# Altium footprint library Component.PcbLib: 79 footprints (part 3 of 5)
Each footprint in its own frame and in the unit in brackets; x right, y up, seen from the top. Pads: shape width x height; smd on the part's side, far side on the other; paste and mask are expansions set on the pad; w line width, h text height; cw(c..) or ccw(c..) is an arc to the next point about the centre after c.
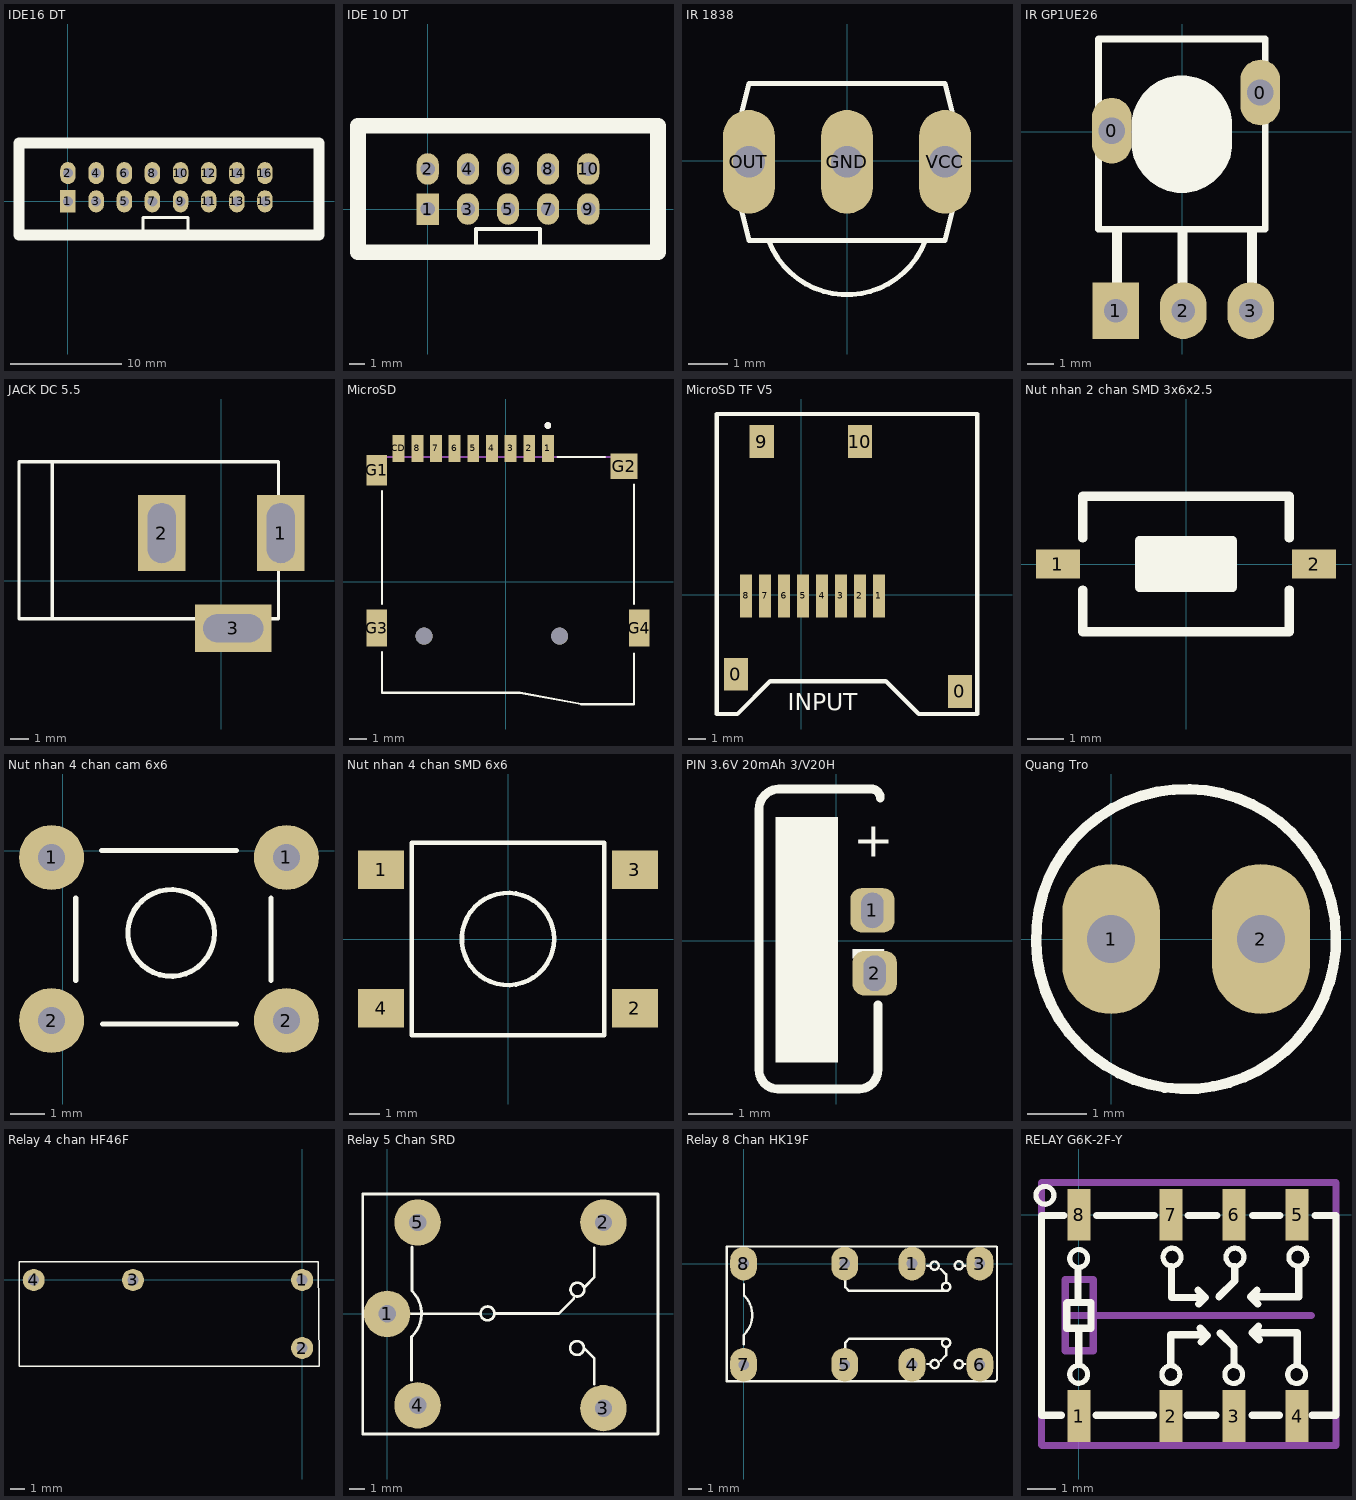
[diagram p2: the footprints below, top view; thin cyan lines are the x and y axes]

## IDE16 DT [mm]
pads (16):
  rect 1.4x2 hole 0.9: 1(0,0)
  oval 1.4x2 hole 0.9: 2(0,2.54) 3(2.54,0) 4(2.54,2.54) 5(5.08,0) 6(5.08,2.54) 7(7.62,0) 8(7.62,2.54) 9(10.16,0) 10(10.16,2.54) 11(12.7,0) 12(12.7,2.54) 13(15.24,0) 14(15.24,2.54) 15(17.78,0) 16(17.78,2.54)
Top Overlay:
  lines w0.254: 6.782,-2.718 6.782,-1.448 10.846,-1.448 10.846,-2.972
  lines w1: 8.28,-3.048 22.657,-3.048 22.657,5.27 8.28,5.27 ; 14.58,-3.048 -4.42,-3.048 -4.42,5.27 14.58,5.27

## IDE 10 DT [mm] "Connector; Header; 5x2 Position"
pads (10):
  rect 1.4x2 hole 0.9: 1(0,0)
  oval 1.4x2 hole 0.9: 2(0,2.54) 3(2.54,0) 4(2.54,2.54) 5(5.08,0) 6(5.08,2.54) 7(7.62,0) 8(7.62,2.54) 9(10.16,0) 10(10.16,2.54)
Top Overlay:
  lines w0.254: 3.048,-2.286 3.048,-1.27 6.858,-1.27 7.112,-1.27 7.112,-2.286
  lines w1: -4.42,-2.73 -4.42,5.27 14.58,5.27 14.58,-2.73 -4.42,-2.73
3D body "User Library-Tyco - 5103308-1 (Shrouded Header 2_54mm 10 Pin).step": height 9.86, standoff -3.05, extent -5.08,-3.302 15.24,5.842

## IR 1838 [mil]
pads (3):
  oval 52x104 hole 32: GND(-0.05,-1.05) OUT(-98.47,-1.05) VCC(98.38,-1.05)
Top Overlay:
  lines w5: -78.56,-80.4 ccw(c-0.05,-50.26) 78.46,-80.4 ; -118.16,-1.05 -98.47,77.69 98.38,77.69 118.06,-1.05 98.38,-79.79 78.69,-79.79 -78.79,-79.79 -98.47,-79.79 -118.16,-1.05
3D body "TSOP1838--3DModel-STEP-510211.STEP": height 503.54, standoff -716.93, extent -118.11,-164.88 118.11,55

## IR GP1UE26 [mm]
pads (5):
  oval 1.5x2.5 hole 1 square: 0(-2.675,0.05) 0(2.975,1.5)
  rect 1.778x2.159 hole 0.889: 1(-2.525,-6.8)
  oval 1.778x2.159 hole 0.889: 2(0.047,-6.8) 3(2.612,-6.8)
Top Overlay:
  region: 1.9,0.234 1.9,-0.401 1.9,-0.589 1.827,-0.957 1.683,-1.303 1.475,-1.615 1.209,-1.881 0.897,-2.089 0.551,-2.233 0.183,-2.306 -0.005,-2.306 -0.193,-2.306 -0.561,-2.233 -0.907,-2.089 -1.219,-1.881 -1.485,-1.615 -1.693,-1.303 -1.837,-0.957 -1.91,-0.589 -1.91,-0.401 -1.91,0.234 -1.91,0.422 -1.837,0.79 -1.693,1.136 -1.485,1.448 -1.219,1.714 -0.907,1.922 -0.561,2.066 -0.193,2.139 -0.005,2.139 0.183,2.139 0.551,2.066 0.897,1.922 1.209,1.714 1.475,1.448 1.683,1.136 1.827,0.79 1.9,0.422
  lines w0.254: -3.18,-3.703 3.17,-3.703 3.17,3.536 -3.18,3.536 -3.18,-3.703
  lines w0.381: -2.469,-6.421 -2.469,-3.83 ; 0.02,-6.472 0.02,-3.83 ; 2.662,-6.497 2.662,-3.83
Mechanical 1:
  text "O G V" at -2.275,-5.375 h2
3D body "User Library-GP1UE26.STEP": height 7.1, standoff -3.6, extent -3.375,-6.925 3.425,2.875

## JACK DC 5.5 [mm] "Jac DC input"
height 5.08
pads (3):
  rect 2.54x4.064 hole 1.5 slot 3.2 at 90 deg: 1(3.175,2.54) 2(-3.175,2.54)
  rect 4.064x2.54 hole 1.5 slot 3.2 at 0 deg: 3(0.635,-2.54)
Top Overlay:
  lines w0.178: -9.017,-2.032 -9.017,6.35 ; -10.795,-2.032 -10.795,6.35 3.048,6.35 3.048,-2.032 -10.795,-2.032
3D body "SW3dPS-dc range - dc connector[4840.2201].STEP": height 11.02, standoff -3.48, extent -10.423,-2.67 3.404,6.836

## MicroSD [mm]
pads (15):
  rect 0.7x1.6 smd: 1(2.477,7.877) 2(1.377,7.877) 3(0.277,7.877) 4(-0.823,7.877) 5(-1.923,7.877) 6(-3.023,7.877) 7(-4.123,7.877) 8(-5.223,7.877) CD(-6.323,7.877)
  rect 1.2x1.8 smd: G1(-7.623,6.577)
  rect 1.6x1.5 smd: G2(6.977,6.827)
  rect 1.2x2.2 smd: G3(-7.623,-2.723) G4(7.877,-2.723)
  round 1 hole 1 unplated: ""(-4.823,-3.2) ""(3.177,-3.2)
Top Overlay:
  circle w0.2: c2.477,9.227 r0.1
  lines w0.127: -7.298,-4.137 -7.298,-6.542 0.838,-6.542 4.445,-7.214 7.552,-7.214 7.552,-4.214 ; -7.298,-1.303 -7.298,5.357 ; 3.047,7.377 5.857,7.377 ; 7.552,-1.303 7.552,5.757
Mechanical 13:
  circle w0.2: c2.477,9.227 r0.1
  lines w0.127: -7.298,7.377 7.552,7.377
3D body "step_temp.STEP": height 1.93, standoff -0.47, extent -7.92,-7.2 8.23,7.85

## MicroSD TF V5 [mm]
pads (12):
  rect 1.4x1.9 smd: 0(-3.8,-4.6) 0(9.2,-5.6) 9(-2.3,8.9) 10(3.4,8.9)
  rect 0.7x2.5 smd: 1(4.5,-0.054) 2(3.4,-0.054) 3(2.3,-0.054) 4(1.2,-0.054) 5(0.1,-0.054) 6(-1,-0.054) 7(-2.1,-0.054) 8(-3.2,-0.054)
Top Overlay:
  lines w0.254: -4.9,-6.909 -3.979,-6.909 -3.709,-6.909 -1.8,-5 4.9,-5 6.809,-6.909 10.2,-6.909 10.2,10.5 6.4,10.5 -1.4,10.5 -4.9,10.5 -4.9,-6.909
  text "INPUT" at -0.8,-6.7 h1
3D body "User Library-473521001_microSD.STEP": height 2, standoff 0.12, extent -4.35,-5.54 9.75,9.66

## Nut nhan 2 chan SMD 3x6x2.5 [mm] "Switch SMD type"
pads (2):
  rect 1.2x0.8 smd: 1(-3.5,0) 2(3.5,0)
Top Overlay:
  rectangle: -1.27,-0.635 1.27,0.635
  lines w0.254: -2.819,-0.711 -2.819,-1.854 2.819,-1.854 2.819,-0.711 ; -2.819,0.711 -2.819,1.854 2.819,1.854 2.819,0.711 ; -1.27,-0.635 1.27,-0.635 1.27,0.635 -1.27,0.635 -1.27,-0.635
3D body "User Library-Button-SMD.step": height 2.5, standoff 0, extent -3.05,-1.85 3.05,1.85

## Nut nhan 4 chan cam 6x6 [mil] "SW button 4pin, 250 x250 mil"
height 100
pads (4):
  round 75 hole 31: 1(-13,-8) 1(258,-8) 2(-13,-196) 2(258,-196)
Top Overlay:
  circle w6: c125,-95 r50
  lines w6: 15,-150 15,-55 ; 45,0 200,0 ; 46,-200 200,-200 ; 240,-150 240,-55
  lines w7: 239,-215 240,-214
3D body "SW3dPS-.STEP": height 275.59, standoff -137.8, extent -30.51,-225 280.51,19.09

## Nut nhan 4 chan SMD 6x6 [mil] "SW SMD button 4pin, 250 x250 mil"
height 100
pads (4):
  rect 60x50 smd: 1(-165,90) 2(165,-90) 3(165,90) 4(-165,-90)
Top Overlay:
  circle w6: c0,0 r60
  lines w6: -125,-125 -125,125 125,125 125,-125 -125,-125
3D body: height 130, standoff 80, extent -59.76,-59.88 59.76,59.88
3D body: height 80, standoff 10, extent -125,-125 125,125
3D body: height 20, standoff 0, extent 125,-105 180,-75
3D body: height 20, standoff 0, extent 125,75 180,105
3D body: height 20, standoff 0, extent -180,75 -125,105
3D body: height 20, standoff 0, extent -180,-105 -125,-75

## PIN 3.6V 20mAh 3/V20H [mm] "batttery"
height 1.1
pads (2):
  rrect50% 1x1 hole 0.5 slot 0.8 at 90 deg unplated: 1(0.813,0.686) 2(0.864,-0.737)
Top Overlay:
  region: -1.372,2.794 0.025,2.794 0.025,-2.743 -1.372,-2.743
  lines w0.2: 0.94,-1.448 0.94,-2.921 cw(c0.508,-2.921) 0.508,-3.353 -1.321,-3.353 cw(c-1.321,-2.921) -1.753,-2.921 -1.753,-2.819 -1.753,2.972 cw(c-1.295,2.972) -1.295,3.429 0.787,3.429 cw(c0.787,3.226) 0.991,3.226
  text "-" at 0.229,-1.05 h2
  text "+" at 0.379,1.896 h0.8
3D body "User Library-ms621fe.STEP": height 8.4, standoff -0.9, extent -1.742,-3.4 0.958,3.4

## Quang Tro [mil] "QUANG TRO"
height 300
pads (2):
  oval 65x100 hole 32: 1(0,0) 2(100,0)
Top Overlay:
  lines w7: 136.62,-49.97 cw(c50,0) 137.42,-48.56

## Relay 4 chan HF46F [mil]
pads (4):
  round 60 hole 30: 1(0,0) 2(0,-185.04) 3(-460,0) 4(-730,0)
Top Overlay:
  lines w3.94: -770,-235 45.78,-235 44.39,50 -770,50 -770,-235
3D body "User Library-Relay-HF46F-G 5-HS1.STEP": height 154.48, standoff -582.23, extent -763.15,-227.99 40,47.99

## Relay 5 Chan SRD [mil] "Relay SPDT, 5 pin, 10A,W 650mil, L 800mil, H 800mil"
height 800
pads (5):
  round 120 hole 45: 1(0,0) 2(559.06,236.22) 3(559.06,-243.78) 4(78.74,-236.22) 5(78.74,236.22)
Top Overlay:
  circle w7: c491.79,62.82 r17.8
  circle w7: c490.79,-88.18 r17.8
  circle w7: c259.42,1.12 r17.8
  lines w7: 34.97,0.12 239.22,0.12 ; 63.22,-171.88 63.22,-58.88 ; 64.22,-57.88 ccw(c6.72,0.62) 65.22,58.12 ; 64.22,59.12 64.22,173.12 ; 279.22,1.12 443.6,1.12 ; 443.6,1.02 482.6,40.02 ; 508.6,-88.18 535.6,-115.18 535.6,-181.18 ; 509.6,68.82 535.6,94.82 535.6,170.82 ; -63.4,-310.6 700,-310.6 700,310 -63.4,310 -63.4,-310.6
  lines w10: 553.61,232.5 557.91,236.8
3D body "User Library-SONGLE Relay SRU-12VDC-SL-C.STEP": height 602.36, standoff -196.85, extent -55.1,-305.92 696.87,304.32

## Relay 8 Chan HK19F [mil] "Reley DPDT, 8 pin, 1A, W400mil, L800mil,H 300mil"
height 300
pads (8):
  oval 80x100 hole 32: 1(500,0) 2(300,0) 3(701,0) 4(500,-300) 5(300,-300) 6(701,-300) 7(0,-300) 8(0,0)
Top Overlay:
  circle w7: c638.76,-299 r12.24
  circle w7: c566.76,-298 r12.24
  circle w7: c600.76,-235 r12.24
  circle w7: c600.76,-69 r12.24
  circle w7: c566.76,-6 r12.24
  circle w7: c638.76,-5 r12.24
  lines w7: 0,-239 0,-212 ; 1,-211 ccw(c-56.5,-152.5) 2,-95 ; 1,-94 1,-61 ; 302,-255 302,-234 313,-223 599,-223 ; 302,-42 302,-70 313,-81 599,-81 ; 544,-298 552,-298 ; 544,-6 552,-6 ; 585,-288 601,-272 601,-249 ; 585,-16 601,-32 601,-55 ; 653,-298 658,-298 ; 653,-6 658,-6 ; -50,-349 -50,51 750,51 752,49 752,-344 747,-349 -50,-349
3D body "SW3dPS-DSY2Y.STEP": height 484.25, standoff -118.11, extent -59.45,-340 759.45,45.83

## RELAY G6K-2F-Y [mm] "Reley DPDT, 8 pin, 1A, W400mil, L800mil,H 300mil"
height 7.62
pads (8):
  rect 0.8x1.8 smd: 1(0,-7) 2(3.2,-7) 3(5.4,-7) 4(7.6,-7) 5(7.6,0) 6(5.4,0) 7(3.2,0) 8(0,0)
Top Overlay:
  circle w0.178: c-1.179,0.681 r0.311
  circle w0.178: c7.579,-5.556 r0.311
  circle w0.178: c5.392,-5.556 r0.311
  circle w0.178: c3.204,-5.556 r0.311
  circle w0.178: c7.621,-1.469 r0.311
  circle w0.178: c5.433,-1.469 r0.311
  circle w0.178: c3.246,-1.469 r0.311
  circle w0.178: c-0.004,-1.519 r0.311
  circle w0.178: c-0.004,-5.55 r0.311
  lines w0.254: -0.6,-6.975 -1.3,-6.975 -1.3,-0.025 -0.525,-0.025 ; -0.025,-2.975 -0.025,-1.9 ; 0,-5.2 0,-4.025 ; 0.6,-6.975 2.6,-6.975 ; 0.625,-0.025 2.625,-0.025 ; 3.2,-5.2 3.2,-4.175 4.25,-4.175 ; 3.225,-1.8 3.225,-2.875 4.275,-2.875 ; 3.775,-6.975 4.775,-6.975 ; 3.8,-0.025 4.8,-0.025 ; 4.15,-2.625 4.4,-2.875 4.175,-3.1 ; 4.225,-3.95 4.475,-4.2 4.25,-4.425 ; 4.875,-2.85 5.425,-2.3 5.425,-1.8 ; 4.925,-4.125 5.4,-4.6 5.4,-5.2 ; 6.025,-6.975 6.975,-6.975 ; 6.05,-0.025 7,-0.025 ; 6.1,-2.85 7.65,-2.85 7.65,-1.85 ; 6.15,-4.1 7.6,-4.1 7.6,-5.175 ; 6.2,-2.625 5.975,-2.85 6.225,-3.1 ; 6.25,-3.875 6.025,-4.1 6.275,-4.35 ; 8.125,-6.975 8.95,-6.975 8.95,-0.025 8.225,-0.025 ; -0.425,-3.95 0.425,-3.95 0.425,-3.05 -0.4,-3.05 -0.425,-3.075 -0.425,-3.95
Mechanical 1:
  lines w0.254: -0.45,-3.5 8.1,-3.5
Mechanical 13:
  lines w0.254: -1.3,-8 -1.275,-8.025 8.95,-8.025 8.95,1.125 -1.3,1.125 -1.3,-8 ; -0.475,-4.725 -0.475,-2.25 0.5,-2.25 0.5,-4.725 -0.475,-4.725
3D body "G6K-2F-Y 5 VDC.stp": height 5.2, standoff 0, extent -1.175,-7.4 8.825,0.4